# EAGLE library part DS08E (library switch)
DIL/CODE SWITCH
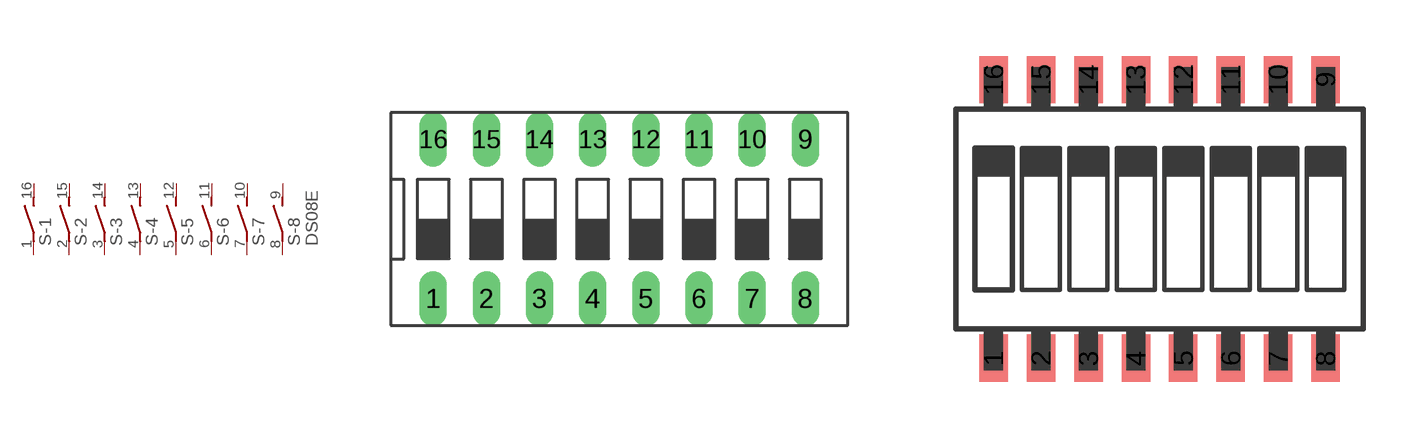
[diagram p5: symbol with the pads of DS-08; footprints DS-08, GDH-008]

Designator prefix S; gates -1=S -2=S -3=S -4=S -5=S -6=S -7=S -8=S+V

## DS08E  [DS-08]
1  -1:1  pas
2  -2:1  pas
3  -3:1  pas
4  -4:1  pas
5  -5:1  pas
6  -6:1  pas
7  -7:1  pas
8  -8:1  pas
9  -8:2  pas
10  -7:2  pas
11  -6:2  pas
12  -5:2  pas
13  -4:2  pas
14  -3:2  pas
15  -2:2  pas
16  -1:2  pas

## DS08ESMT50  [GDH-008]
Pads as for DS-08

## DS08ESMT100  [SMS-008]
Pads as for DS-08

## Footprint DS-08 (pad centres in mm)
DIL/CODE SWITCH Mors distributor Buerklin, 17G562
drill 0.813 long: 1 -8.89,-3.81; 2 -6.35,-3.81; 3 -3.81,-3.81; 4 -1.27,-3.81; 5 1.27,-3.81; 6 3.81,-3.81; 7 6.35,-3.81; 8 8.89,-3.81; 9 8.89,3.81; 10 6.35,3.81; 11 3.81,3.81; 12 1.27,3.81; 13 -1.27,3.81; 14 -3.81,3.81; 15 -6.35,3.81; 16 -8.89,3.81

## Footprint GDH-008 (pad centres in mm)
DIP SWITCH
smd 0.762 x 1.27: 1 -3.81,-3.734; 2 -2.54,-3.734; 3 -1.27,-3.734; 4 0,-3.734; 5 1.27,-3.734; 6 2.54,-3.734; 7 3.81,-3.734; 8 5.08,-3.734; 9 5.08,3.734; 10 3.81,3.734; 11 2.54,3.734; 12 1.27,3.734; 13 0,3.734; 14 -1.27,3.734; 15 -2.54,3.734; 16 -3.81,3.734

## Footprint SMS-008 (pad centres in mm)
DIP SWITCH
smd 1.092 x 2.007: 1 -8.89,-4.496; 2 -6.35,-4.496; 3 -3.81,-4.496; 4 -1.27,-4.496; 5 1.27,-4.496; 6 3.81,-4.496; 7 6.35,-4.496; 8 8.89,-4.496; 9 8.89,4.496; 10 6.35,4.496; 11 3.81,4.496; 12 1.27,4.496; 13 -1.27,4.496; 14 -3.81,4.496; 15 -6.35,4.496; 16 -8.89,4.496